# Altium schematic symbol library RES-VAR — копия.SchLib: 1 symbol
Pins are listed as number, name and electrical type; pins without a type are passive.

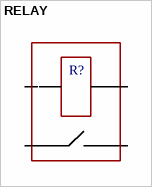
[diagram p0: symbol RELAY]

## RELAY
designator R?
pins: 30, 85, 86, 87